# EAGLE library part EC2 (library KEMET)
KEMET EC2 DPDT General Purpose 2A Relay. 12V coil voltage. Datasheet <https://content.kemet.com/datasheets/KEM_R7002_EC2_EE2.pdf> Digikey <https://www.digikey.com/product-detail/en/kemet/EC2-12TNU/399-11031-5-ND/4291097>
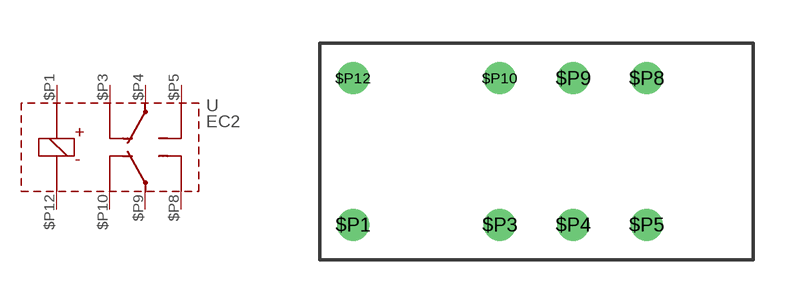
[diagram p0: symbol with the pads of DPDT_2.54; footprint DPDT_2.54]

Designator prefix -

## EC2  [DPDT_2.54]
$P1  $P1
$P3  $P3  pas
$P4  $P4  pas
$P5  $P5  pas
$P8  $P8  pas
$P9  $P9  pas
$P10  $P10  pas
$P12  $P12

## Footprint DPDT_2.54 (pad centres in mm)
drill 0.6: $P1 -6.35,-2.54; $P3 -1.27,-2.54; $P4 1.27,-2.54; $P5 3.81,-2.54; $P8 3.81,2.54; $P9 1.27,2.54; $P10 -1.27,2.54; $P12 -6.35,2.54